# Altium schematic symbol library VJ0603D3R9DXCAP.SchLib: 1 symbol
Pins are listed as number, name and electrical type; pins without a type are passive.

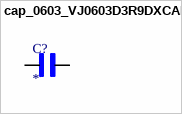
[diagram p0: symbol cap_0603_VJ0603D3R9DXCAP]

## cap_0603_VJ0603D3R9DXCAP
designator C?
cap 0603 (1608 Metric); MF: Vishay Vitramon; MP: VJ0603D3R9DXCAP; SnapEDA_Link: https://www.snapeda.com/parts/VJ0603D3R9DXCAP/Vishay/view-part/?ref=snap; Package: 1608 Vishay Vitramon; Value: *; Check_prices: https://www.snapeda.com/parts/VJ0603D3R9DXCAP/Vishay/view-part/?ref=eda
footprint CAPC1608X94N
pins: 1, 2